# Altium schematic symbol library PCM1780DBQR.Schlib: 1 symbol
Pins are listed as number, name and electrical type; pins without a type are passive.

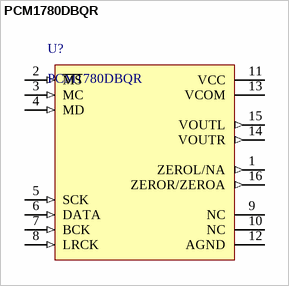
[diagram p0: symbol PCM1780DBQR]

## PCM1780DBQR
designator U?
DAC, Audio 24 b 200k I²S 16-SSOP
pins: 1 ZEROL/NA (out), 2 ~{MS} (in), 3 MC (in), 4 MD (in), 5 SCK (in), 6 DATA (in), 7 BCK (in), 8 LRCK (in), 9 NC, 10 NC, 11 VCC (power), 12 AGND (power), 13 VCOM (power), 14 VOUTR (out), 15 VOUTL (out), 16 ZEROR/ZEROA (out)